# Altium footprint library IGBT modules.PcbLib: 1 footprints
Each footprint in its own frame and in the unit in brackets; x right, y up, seen from the top. Pads: shape width x height; smd on the part's side, far side on the other; paste and mask are expansions set on the pad; w line width, h text height; cw(c..) or ccw(c..) is an arc to the next point about the centre after c.
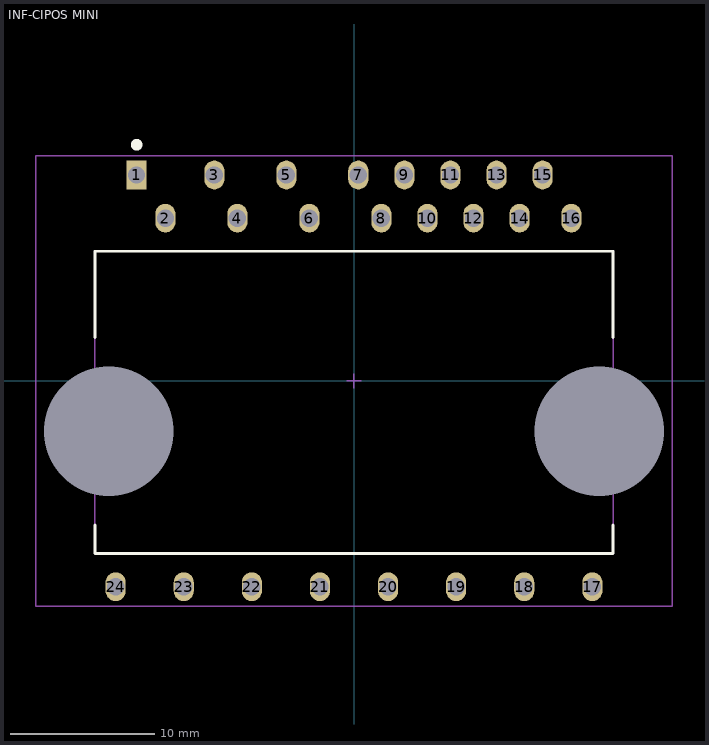
[diagram p0: the footprint, top view; thin cyan lines are the x and y axes]

## INF-CIPOS MINI [mm] "CIPOS MINI;24 pin, 21mm W X 36mm L X 5.6mm H body"
height 5.6
pads (26):
  rect 1.4x2 hole 1.2 paste+0 mask+0: 1(-15.1,14.3)
  oval 1.4x2 hole 1.2 paste+0 mask+0: 2(-13.1,11.3) 3(-9.7,14.3) 4(-8.1,11.3) 5(-4.7,14.3) 6(-3.1,11.3) 7(0.3,14.3) 8(1.9,11.3) 9(3.5,14.3) 10(5.1,11.3) 11(6.7,14.3) 12(8.3,11.3) 13(9.9,14.3) 14(11.5,11.3) 15(13.1,14.3) 16(15.1,11.3) 17(16.555,-14.3) 18(11.825,-14.3) 19(7.095,-14.3) 20(2.365,-14.3) 21(-2.365,-14.3) 22(-7.095,-14.3) 23(-11.825,-14.3) 24(-16.555,-14.3)
  round 0 hole 9 unplated paste+0 mask+0: ""(-17.025,-3.5) ""(17.025,-3.5)
Top Overlay:
  circle w0.4: c-15.1,16.4 r0.2
  lines w0.2: -18,-10 -18,-12 18,-12 18,-10 ; -18,3 -18,9 18,9 18,3
M3 (ASY_Text_Top):
  text ".DESIGNATOR" at 0,0 h1.2
M13 (CMP_Body_OTL_Top):
  lines w0.1: -18,-12 18,-12 18,9 -18,9 -18,-12
M15 (CMP_Courtyard_Top):
  lines w0.1: -0.5,0 0.5,0 ; 0,-0.5 0,0.5 ; -22.1,-15.65 -22.1,15.65 22.1,15.65 22.1,-15.65 -22.1,-15.65
3D body "MDIP-24-X1.stp": height 5.61, standoff -4.25, extent -18,-14.56 18,14.56